# Altium footprint library PcbLib1.PcbLib: 43 footprints (part 2 of 3)
Each footprint in its own frame and in the unit in brackets; x right, y up, seen from the top. Pads: shape width x height; smd on the part's side, far side on the other; paste and mask are expansions set on the pad; w line width, h text height; cw(c..) or ccw(c..) is an arc to the next point about the centre after c.
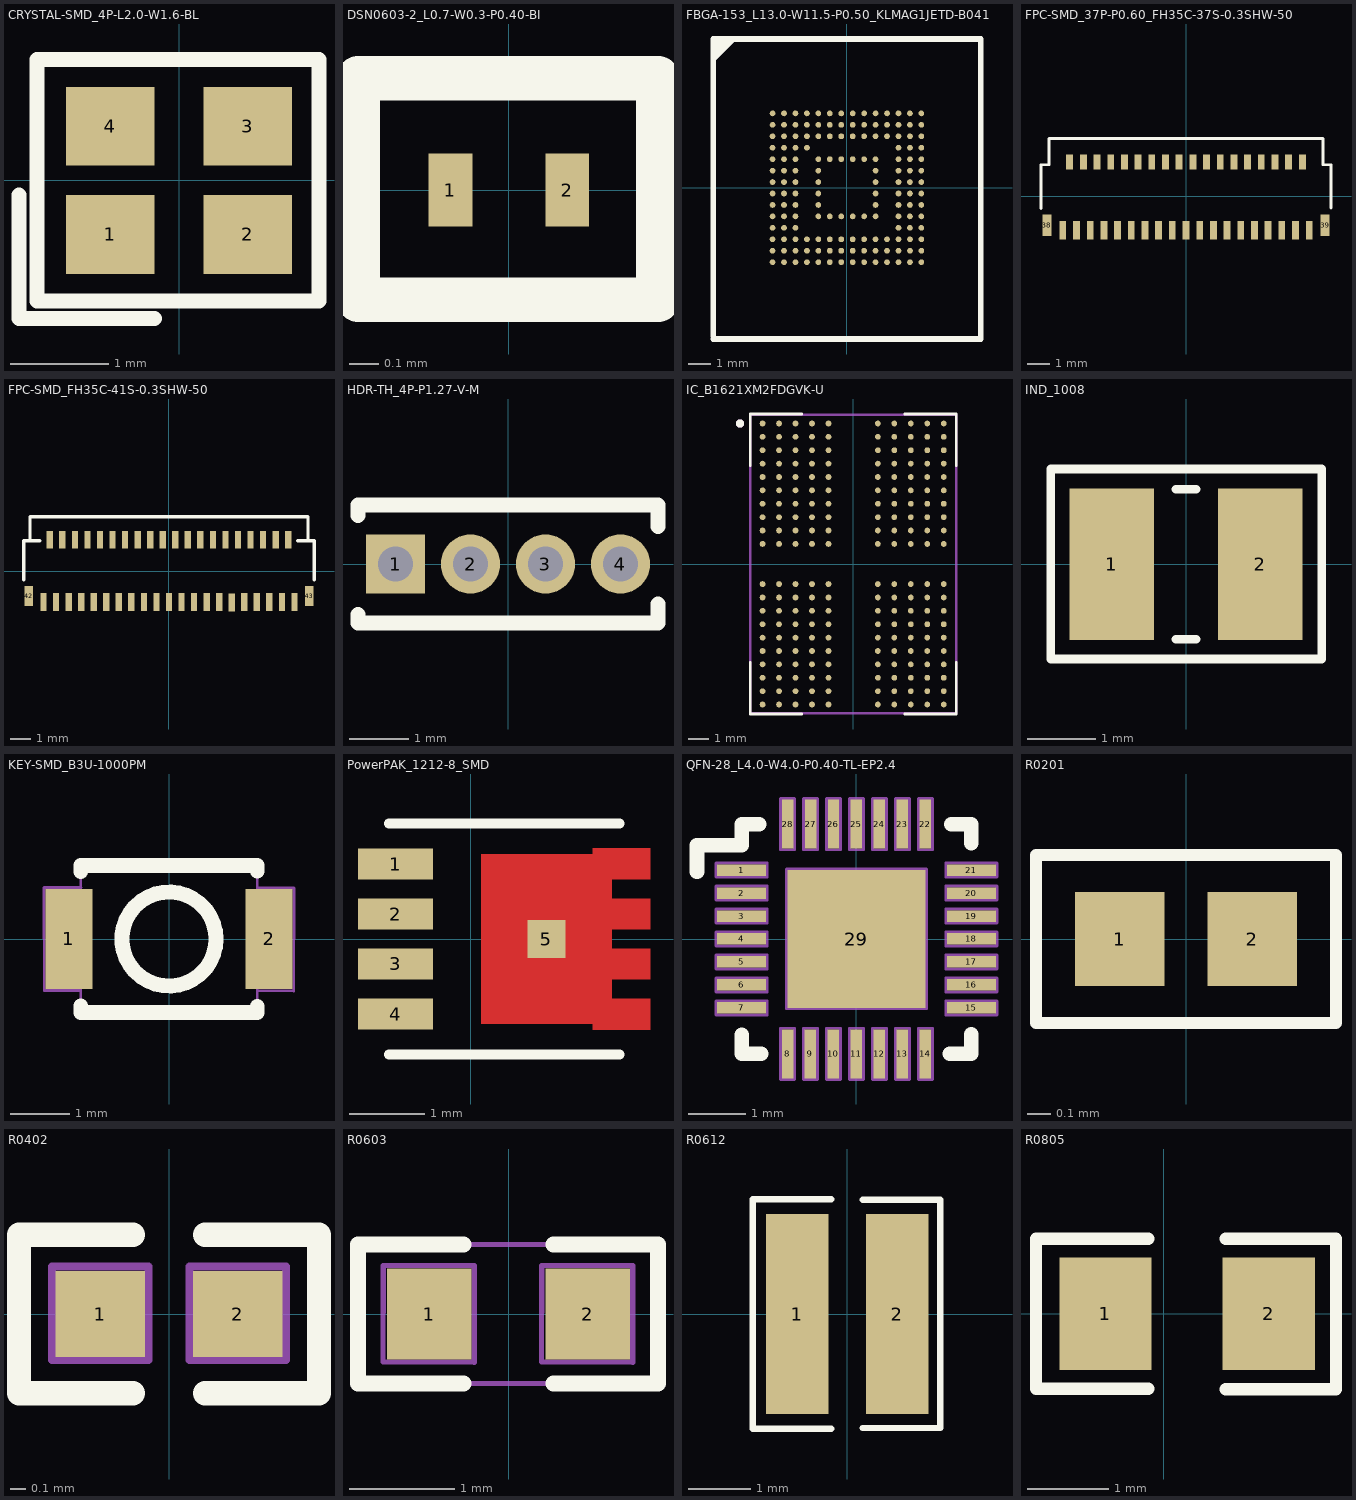
[diagram p1: the footprints below, top view; thin cyan lines are the x and y axes]

## CRYSTAL-SMD_4P-L2.0-W1.6-BL [mm] "SMD2016"
pads (4):
  rect 0.9x0.8 smd paste+0 mask+0.051: 1(-0.7,-0.55) 2(0.7,-0.55) 3(0.7,0.55) 4(-0.7,0.55)
Top Overlay:
  lines w0.152: -1.627,-0.15 -1.627,-1.404 -0.25,-1.404 ; -1.446,-1.227 1.422,-1.227 1.422,1.228 -1.446,1.228 -1.446,-1.227
3D body "SMD_2016.step": height 0.45, standoff 0, extent -1,-0.8 1,0.8

## DSN0603-2_L0.7-W0.3-P0.40-BI [mm] "DSN0603"
pads (2):
  rect 0.15x0.25 smd paste+0 mask+0.051: 1(-0.2,0) 2(0.2,0)
Top Overlay:
  lines w0.152: -0.516,-0.376 0.511,-0.376 0.511,0.384 -0.516,0.384 -0.516,-0.376
3D body "User Library-SOD962.step": height 0.33, standoff 0, extent -0.296,-0.147 0.304,0.153

## FBGA-153_L13.0-W11.5-P0.50_KLMAG1JETD-B041 [mm]
pads (153):
  round 0.25 smd paste-100 mask+0.05: A1(-3.25,3.25) A2(-2.75,3.25) A3(-2.25,3.25) A4(-1.75,3.25) A5(-1.25,3.25) A6(-0.75,3.25) A7(-0.25,3.25) A8(0.25,3.25) A9(0.75,3.25) A10(1.25,3.25) A11(1.75,3.25) A12(2.25,3.25) A13(2.75,3.25) A14(3.25,3.25) B1(-3.25,2.75) B2(-2.75,2.75) B3(-2.25,2.75) B4(-1.75,2.75) B5(-1.25,2.75) B6(-0.75,2.75) B7(-0.25,2.75) B8(0.25,2.75) B9(0.75,2.75) B10(1.25,2.75) B11(1.75,2.75) B12(2.25,2.75) B13(2.75,2.75) B14(3.25,2.75) C1(-3.25,2.25) C2(-2.75,2.25) C3(-2.25,2.25) C4(-1.75,2.25) C5(-1.25,2.25) C6(-0.75,2.25) C7(-0.25,2.25) C8(0.25,2.25) C9(0.75,2.25) C10(1.25,2.25) C11(1.75,2.25) C12(2.25,2.25) C13(2.75,2.25) C14(3.25,2.25) D1(-3.25,1.75) D2(-2.75,1.75) D3(-2.25,1.75) D4(-1.75,1.75) D12(2.25,1.75) D13(2.75,1.75) D14(3.25,1.75) E1(-3.25,1.25) E2(-2.75,1.25) E3(-2.25,1.25) E5(-1.25,1.25) E6(-0.75,1.25) E7(-0.25,1.25) E8(0.25,1.25) E9(0.75,1.25) E10(1.25,1.25) E12(2.25,1.25) E13(2.75,1.25) E14(3.25,1.25) F1(-3.25,0.75) F2(-2.75,0.75) F3(-2.25,0.75) F5(-1.25,0.75) F10(1.25,0.75) F12(2.25,0.75) F13(2.75,0.75) F14(3.25,0.75) G1(-3.25,0.25) G2(-2.75,0.25) G3(-2.25,0.25) G5(-1.25,0.25) G10(1.25,0.25) G12(2.25,0.25) G13(2.75,0.25) G14(3.25,0.25) H1(-3.25,-0.25) H2(-2.75,-0.25) H3(-2.25,-0.25) H5(-1.25,-0.25) H10(1.25,-0.25) H12(2.25,-0.25) H13(2.75,-0.25) H14(3.25,-0.25) J1(-3.25,-0.75) J2(-2.75,-0.75) J3(-2.25,-0.75) J5(-1.25,-0.75) J10(1.25,-0.75) J12(2.25,-0.75) J13(2.75,-0.75) J14(3.25,-0.75) K1(-3.25,-1.25) K2(-2.75,-1.25) K3(-2.25,-1.25) K5(-1.25,-1.25) K6(-0.75,-1.25) K7(-0.25,-1.25) K8(0.25,-1.25) K9(0.75,-1.25) K10(1.25,-1.25) K12(2.25,-1.25) K13(2.75,-1.25) K14(3.25,-1.25) L1(-3.25,-1.75) L2(-2.75,-1.75) L3(-2.25,-1.75) L12(2.25,-1.75) L13(2.75,-1.75) L14(3.25,-1.75) M1(-3.25,-2.25) M2(-2.75,-2.25) M3(-2.25,-2.25) M4(-1.75,-2.25) M5(-1.25,-2.25) M6(-0.75,-2.25) M7(-0.25,-2.25) M8(0.25,-2.25) M9(0.75,-2.25) M10(1.25,-2.25) M11(1.75,-2.25) M12(2.25,-2.25) M13(2.75,-2.25) M14(3.25,-2.25) N1(-3.25,-2.75) N2(-2.75,-2.75) N3(-2.25,-2.75) N4(-1.75,-2.75) N5(-1.25,-2.75) N6(-0.75,-2.75) N7(-0.25,-2.75) N8(0.25,-2.75) N9(0.75,-2.75) N10(1.25,-2.75) N11(1.75,-2.75) N12(2.25,-2.75) N13(2.75,-2.75) N14(3.25,-2.75) P1(-3.25,-3.25) P2(-2.75,-3.25) P3(-2.25,-3.25) P4(-1.75,-3.25) P5(-1.25,-3.25) P6(-0.75,-3.25) P7(-0.25,-3.25) P8(0.25,-3.25) P9(0.75,-3.25) P10(1.25,-3.25) P11(1.75,-3.25) P12(2.25,-3.25) P13(2.75,-3.25) P14(3.25,-3.25)
Top Overlay:
  region: -4.826,6.477 -5.715,6.477 -5.715,5.588
  lines w0.254: -5.841,-6.605 5.843,-6.605 5.843,5.079 ; -5.841,-6.5 -5.841,6.5 5.842,6.5 5.842,5.079
Top Paste:
  drawing of 153 lines, arcs and shapes, not listed
3D body "BGA153C50P14X14_1150X1300X70.step": height 0.7, standoff 0, extent -5.75,-6.5 5.75,6.5

## FPC-SMD_37P-P0.60_FH35C-37S-0.3SHW-50 [mm]
pads (39):
  rect 0.3x0.8 smd paste+0 mask+0.051: 1(5.4,-1.5) 3(4.8,-1.5) 5(4.2,-1.5) 7(3.6,-1.5) 9(3,-1.5) 11(2.4,-1.5) 13(1.8,-1.5) 15(1.2,-1.5) 17(0.6,-1.5) 19(0,-1.5) 21(-0.6,-1.5) 23(-1.2,-1.5) 25(-1.8,-1.5) 27(-2.4,-1.5) 29(-3,-1.5) 31(-3.6,-1.5) 33(-4.2,-1.5) 35(-4.8,-1.5) 37(-5.4,-1.5)
  rect 0.3x0.65 smd paste+0 mask+0.051: 2(5.1,1.5) 4(4.5,1.5) 6(3.9,1.5) 8(3.3,1.5) 10(2.7,1.5) 12(2.1,1.5) 14(1.5,1.5) 16(0.9,1.5) 18(0.3,1.5) 20(-0.3,1.5) 22(-0.9,1.5) 24(-1.5,1.5) 26(-2.1,1.5) 28(-2.7,1.5) 30(-3.3,1.5) 32(-3.9,1.5) 34(-4.5,1.5) 36(-5.1,1.5)
  rect 0.4x0.95 smd paste+0 mask+0.051: 38(-6.1,-1.275) 39(6.1,-1.275)
Top Overlay:
  lines w0.127: -6.349,-0.542 -6.349,1.376 -6.001,1.376 -6.001,2.524 6.001,2.524 6.001,1.376 6.351,1.376 6.351,-0.52
3D body "FH35C-37S-0.3SHW(50).STEP": height 0.94, standoff 0.04, extent -6.332,-1.776 6.368,2.424

## FPC-SMD_FH35C-41S-0.3SHW-50 [mm]
pads (43):
  rect 0.3x0.85 smd paste+0 mask+0.051: 1(6,-1.475) 2(5.7,1.5) 3(5.4,-1.475) 4(5.1,1.5) 5(4.8,-1.475) 6(4.5,1.5) 7(4.2,-1.475) 8(3.9,1.5) 9(3.6,-1.475) 10(3.3,1.5) 11(3,-1.5) 12(2.7,1.5) 13(2.4,-1.475) 14(2.1,1.5) 15(1.8,-1.475) 16(1.5,1.5) 17(1.2,-1.475) 18(0.9,1.5) 19(0.6,-1.475) 20(0.3,1.5) 21(0,-1.475) 22(-0.3,1.5) 23(-0.6,-1.475) 24(-0.9,1.5) 25(-1.2,-1.475) 26(-1.5,1.5) 27(-1.8,-1.475) 28(-2.1,1.5) 29(-2.4,-1.475) 30(-2.7,1.5) 31(-3,-1.475) 32(-3.3,1.5) 33(-3.6,-1.475) 34(-3.9,1.5) 35(-4.2,-1.475) 36(-4.5,1.5) 37(-4.8,-1.475) 38(-5.1,1.5) 39(-5.4,-1.475) 40(-5.7,1.5) 41(-6,-1.475)
  rect 0.4x0.95 smd paste+0 mask+0.051: 42(-6.7,-1.2) 43(6.7,-1.2)
Top Overlay:
  lines w0.152: -6.95,-0.413 -6.95,1.45 -6.65,1.45 ; -6.164,1.45 -6.65,1.45 ; 6.152,1.45 6.65,1.45 ; 6.95,-0.431 6.95,1.45 6.65,1.45 ; -6.65,1.45 -6.65,2.6 6.65,2.6 6.65,1.45
3D body "FH35C-41S-0.3SHW(50).STEP": height 0.94, standoff 0.04, extent -6.938,-1.624 6.962,2.576

## HDR-TH_4P-P1.27-V-M [mm]
pads (4):
  rect 1x1 hole 0.6 paste-2539.97 mask+0.051: 1(-1.905,0)
  round 1 hole 0.6 paste-2539.97 mask+0.051: 2(-0.635,0) 3(0.635,0) 4(1.905,0)
Top Overlay:
  lines w0.254: -2.54,-0.858 -2.54,-1 2.54,-1 2.54,-0.68 ; -2.54,0.82 -2.54,1 2.54,1 2.54,0.637

## IC_B1621XM2FDGVK-U [mm]
height 0.95
pads (200):
  round 0.28 smd: A1(-4.4,6.825) A2(-3.6,6.825) A3(-2.8,6.825) A4(-2,6.825) A5(-1.2,6.825) A8(1.2,6.825) A9(2,6.825) A10(2.8,6.825) A11(3.6,6.825) A12(4.4,6.825) AA1(-4.4,-6.175) AA2(-3.6,-6.175) AA3(-2.8,-6.175) AA4(-2,-6.175) AA5(-1.2,-6.175) AA8(1.2,-6.175) AA9(2,-6.175) AA10(2.8,-6.175) AA11(3.6,-6.175) AA12(4.4,-6.175) AB1(-4.4,-6.825) AB2(-3.6,-6.825) AB3(-2.8,-6.825) AB4(-2,-6.825) AB5(-1.2,-6.825) AB8(1.2,-6.825) AB9(2,-6.825) AB10(2.8,-6.825) AB11(3.6,-6.825) AB12(4.4,-6.825) B1(-4.4,6.175) B2(-3.6,6.175) B3(-2.8,6.175) B4(-2,6.175) B5(-1.2,6.175) B8(1.2,6.175) B9(2,6.175) B10(2.8,6.175) B11(3.6,6.175) B12(4.4,6.175) C1(-4.4,5.525) C2(-3.6,5.525) C3(-2.8,5.525) C4(-2,5.525) C5(-1.2,5.525) C8(1.2,5.525) C9(2,5.525) C10(2.8,5.525) C11(3.6,5.525) C12(4.4,5.525) D1(-4.4,4.875) D2(-3.6,4.875) D3(-2.8,4.875) D4(-2,4.875) D5(-1.2,4.875) D8(1.2,4.875) D9(2,4.875) D10(2.8,4.875) D11(3.6,4.875) D12(4.4,4.875) E1(-4.4,4.225) E2(-3.6,4.225) E3(-2.8,4.225) E4(-2,4.225) E5(-1.2,4.225) E8(1.2,4.225) E9(2,4.225) E10(2.8,4.225) E11(3.6,4.225) E12(4.4,4.225) F1(-4.4,3.575) F2(-3.6,3.575) F3(-2.8,3.575) F4(-2,3.575) F5(-1.2,3.575) F8(1.2,3.575) F9(2,3.575) F10(2.8,3.575) F11(3.6,3.575) F12(4.4,3.575) G1(-4.4,2.925) G2(-3.6,2.925) G3(-2.8,2.925) G4(-2,2.925) G5(-1.2,2.925) G8(1.2,2.925) G9(2,2.925) G10(2.8,2.925) G11(3.6,2.925) G12(4.4,2.925) H1(-4.4,2.275) H2(-3.6,2.275) H3(-2.8,2.275) H4(-2,2.275) H5(-1.2,2.275) H8(1.2,2.275) H9(2,2.275) H10(2.8,2.275) H11(3.6,2.275) H12(4.4,2.275) J1(-4.4,1.625) J2(-3.6,1.625) J3(-2.8,1.625) J4(-2,1.625) J5(-1.2,1.625) J8(1.2,1.625) J9(2,1.625) J10(2.8,1.625) J11(3.6,1.625) J12(4.4,1.625) K1(-4.4,0.975) K2(-3.6,0.975) K3(-2.8,0.975) K4(-2,0.975) K5(-1.2,0.975) K8(1.2,0.975) K9(2,0.975) K10(2.8,0.975) K11(3.6,0.975) K12(4.4,0.975) N1(-4.4,-0.975) N2(-3.6,-0.975) N3(-2.8,-0.975) N4(-2,-0.975) N5(-1.2,-0.975) N8(1.2,-0.975) N9(2,-0.975) N10(2.8,-0.975) N11(3.6,-0.975) N12(4.4,-0.975) P1(-4.4,-1.625) P2(-3.6,-1.625) P3(-2.8,-1.625) P4(-2,-1.625) P5(-1.2,-1.625) P8(1.2,-1.625) P9(2,-1.625) P10(2.8,-1.625) P11(3.6,-1.625) P12(4.4,-1.625) R1(-4.4,-2.275) R2(-3.6,-2.275) R3(-2.8,-2.275) R4(-2,-2.275) R5(-1.2,-2.275) R8(1.2,-2.275) R9(2,-2.275) R10(2.8,-2.275) R11(3.6,-2.275) R12(4.4,-2.275) T1(-4.4,-2.925) T2(-3.6,-2.925) T3(-2.8,-2.925) T4(-2,-2.925) T5(-1.2,-2.925) T8(1.2,-2.925) T9(2,-2.925) T10(2.8,-2.925) T11(3.6,-2.925) T12(4.4,-2.925) U1(-4.4,-3.575) U2(-3.6,-3.575) U3(-2.8,-3.575) U4(-2,-3.575) U5(-1.2,-3.575) U8(1.2,-3.575) U9(2,-3.575) U10(2.8,-3.575) U11(3.6,-3.575) U12(4.4,-3.575) V1(-4.4,-4.225) V2(-3.6,-4.225) V3(-2.8,-4.225) V4(-2,-4.225) V5(-1.2,-4.225) V8(1.2,-4.225) V9(2,-4.225) V10(2.8,-4.225) V11(3.6,-4.225) V12(4.4,-4.225) W1(-4.4,-4.875) W2(-3.6,-4.875) W3(-2.8,-4.875) W4(-2,-4.875) W5(-1.2,-4.875) W8(1.2,-4.875) W9(2,-4.875) W10(2.8,-4.875) W11(3.6,-4.875) W12(4.4,-4.875) Y1(-4.4,-5.525) Y2(-3.6,-5.525) Y3(-2.8,-5.525) Y4(-2,-5.525) Y5(-1.2,-5.525) Y8(1.2,-5.525) Y9(2,-5.525) Y10(2.8,-5.525) Y11(3.6,-5.525) Y12(4.4,-5.525)
Top Overlay:
  circle w0.2: c-5.5,6.825 r0.1
  lines w0.127: -5,-4.77 -5,-7.285 -2.5,-7.285 ; -5,4.77 -5,7.285 -2.5,7.285 ; 2.5,-7.285 5,-7.285 5,-4.77 ; 2.5,7.285 5,7.285 5,4.77
Mechanical 2:
  lines w0.127: -5,-7.25 5,-7.25 5,7.25 -5,7.25 -5,-7.25
Mechanical 13:
  circle w0.2: c-5.5,6.825 r0.1
3D body "step_temp.STEP": height 0.95, standoff 0, extent -5,-7.25 5,7.25

## IND_1008 [mm] "Inductor"
pads (2):
  rect 1.24x2.22 smd: 1(-1.09,0) 2(1.09,0)
Top Overlay:
  lines w0.127: -0.15,-1.1 0.15,-1.1 ; -0.15,1.1 0.15,1.1 ; -1.983,-1.392 -1.983,1.397 1.99,1.397 1.99,-1.392 -1.983,-1.392
3D body "User Library-1008CS.step": height 2.01, standoff -0.02, extent -1.46,-1.395 1.46,1.395

## KEY-SMD_B3U-1000PM [mm]
height 1.6
pads (2):
  rect 0.8x1.7 smd paste+0 mask+0.051: 1(-1.7,0) 2(1.7,0)
Top Overlay:
  circle w0.254: c0,0 r0.8
  lines w0.254: -1.5,-1.138 -1.5,-1.25 ; -1.5,1.151 -1.5,1.25 ; 1.5,-1.146 1.5,-1.25 ; 1.5,1.158 1.5,1.25 ; -1.5,-1.25 1.5,-1.25 ; -1.5,-1.25 1.5,-1.25 ; -1.5,1.25 1.5,1.25 ; -1.5,1.25 1.5,1.25
Mechanical 2:
  circle w0.05: c0,0 r0.762
  lines w0.05: -1.503,-0.877 -2.121,-0.872 -2.124,0.873 -1.492,0.873 ; 1.5,0.87 2.124,0.87 2.121,-0.884 1.507,-0.879 ; -1.5,-1.25 1.5,-1.25 1.5,1.081 1.5,1.25 -1.5,1.25 -1.5,-1.25
3D body "B3U-1000P--3DModel-STEP-56544.STEP": height 1.75, standoff 0, extent -2,-1.25 2,1.25

## PowerPAK_1212-8_SMD [mm] "Mosfet"
pads (5):
  rect 0.99x0.405 smd: 1(-0.996,0.99) 2(-0.996,0.33) 3(-0.996,-0.33) 4(-0.996,-0.99)
  rect 0.5x0.5 smd paste-1 mask+0: 5(0.996,0)
Top Layer:
  region: 2.369,0.787 1.859,0.787 1.859,0.533 2.369,0.533 2.369,0.128 1.859,0.128 1.859,-0.128 2.369,-0.128 2.369,-0.533 1.859,-0.533 1.859,-0.787 2.369,-0.787 2.369,-1.195 1.609,-1.195 1.609,-1.118 0.134,-1.118 0.134,1.118 1.609,1.118 1.609,1.195 2.369,1.195
Top Overlay:
  lines w0.127: -1.086,-1.525 1.964,-1.525 ; -1.086,1.525 1.964,1.525
Top Paste:
  region: 1.542,-0.707 0.45,-0.707 0.45,0.707 1.542,0.707
Top Solder:
  region: 2.469,0.687 1.959,0.687 1.959,0.633 2.469,0.632 2.469,0.028 1.959,0.028 1.959,-0.028 2.469,-0.028 2.469,-0.632 1.959,-0.633 1.959,-0.687 2.469,-0.687 2.469,-1.292 1.509,-1.292 1.509,-1.218 0.034,-1.218 0.034,1.218 1.509,1.218 1.509,1.292 2.469,1.292
Mechanical 13:
  lines w0.05: -1.086,-1.525 1.964,-1.525 ; -1.086,1.525 1.964,1.525
3D body "User Library-PowerPAK 1212-8-1.step": height 1.05, standoff 0.01, extent -1.16,-1.675 2.14,1.625

## QFN-28_L4.0-W4.0-P0.40-TL-EP2.4 [mm]
pads (29):
  rect 0.85x0.2 smd paste+0 mask+0.05: 1(-2,1.2) 2(-2,0.8) 3(-2,0.4) 4(-2,0.001) 5(-2,-0.4) 6(-2,-0.8) 7(-2,-1.2) 15(2,-1.2) 16(2,-0.8) 17(2,-0.4) 18(2,0) 19(2,0.4) 20(2,0.8) 21(2,1.2)
  rect 0.2x0.85 smd paste+0 mask+0.05: 8(-1.2,-2) 9(-0.8,-2) 10(-0.4,-2) 11(0,-2) 12(0.399,-2) 13(0.8,-2) 14(1.2,-2) 22(1.2,2) 23(0.8,2) 24(0.4,2) 25(0,2) 26(-0.4,2) 27(-0.8,2) 28(-1.2,2)
  rect 2.4x2.4 smd paste+0 mask+0.05: 29(0,0)
Top Overlay:
  lines w0.254: -2.776,1.173 -2.776,1.634 -2,1.634 -2,2 -1.692,2 ; -2,-1.671 -2,-2 -1.659,-2 ; 1.628,-2 2,-2 2,-1.656 ; 1.654,2 2,2 2,1.664
Top Paste:
  region: -1.1,2.425 -1.3,2.425 -1.3,1.575 -1.1,1.575
  region: -0.7,2.425 -0.9,2.425 -0.9,1.575 -0.7,1.575
  region: -0.3,2.425 -0.5,2.425 -0.5,1.575 -0.3,1.575
  region: 0.099,2.425 -0.101,2.425 -0.101,1.575 0.099,1.575
  region: 0.5,2.425 0.3,2.425 0.3,1.575 0.5,1.575
  region: 0.9,2.425 0.7,2.425 0.7,1.575 0.9,1.575
  region: 1.3,2.425 1.1,2.425 1.1,1.575 1.3,1.575
  region: -1.1,-1.575 -1.3,-1.575 -1.3,-2.425 -1.1,-2.425
  region: -0.7,-1.575 -0.9,-1.575 -0.9,-2.425 -0.7,-2.425
  region: -0.3,-1.575 -0.5,-1.575 -0.5,-2.425 -0.3,-2.425
  region: 0.099,-1.575 -0.101,-1.575 -0.101,-2.425 0.099,-2.425
  region: 0.5,-1.575 0.3,-1.575 0.3,-2.425 0.5,-2.425
  region: 0.9,-1.575 0.7,-1.575 0.7,-2.425 0.9,-2.425
  region: 1.3,-1.575 1.1,-1.575 1.1,-2.425 1.3,-2.425
  region: 2.425,1.1 2.425,1.3 1.575,1.3 1.575,1.1
  region: 2.425,0.7 2.425,0.9 1.575,0.9 1.575,0.7
  region: 2.425,0.3 2.425,0.5 1.575,0.5 1.575,0.3
  region: 2.425,-0.099 2.425,0.101 1.575,0.101 1.575,-0.099
  region: 2.425,-0.5 2.425,-0.3 1.575,-0.3 1.575,-0.5
  region: 2.425,-0.9 2.425,-0.7 1.575,-0.7 1.575,-0.9
  region: 2.425,-1.3 2.425,-1.1 1.575,-1.1 1.575,-1.3
  region: -1.575,-1.3 -1.575,-1.1 -2.425,-1.1 -2.425,-1.3
  region: -1.575,-0.9 -1.575,-0.7 -2.425,-0.7 -2.425,-0.9
  region: -1.575,-0.5 -1.575,-0.3 -2.425,-0.3 -2.425,-0.5
  region: -1.575,-0.099 -1.575,0.101 -2.425,0.101 -2.425,-0.099
  region: -1.575,0.3 -1.575,0.5 -2.425,0.5 -2.425,0.3
  region: -1.575,0.7 -1.575,0.9 -2.425,0.9 -2.425,0.7
  region: -1.575,1.1 -1.575,1.3 -2.425,1.3 -2.425,1.1
  region: -0.96,0.96 0.96,0.96 0.96,-0.96 -0.96,-0.96
Mechanical 2:
  lines w0.05: -2,-1.671 -2,-2 -1.659,-2 ; -2,1.634 -2,2 -1.692,2 ; 1.628,-2 2,-2 2,-1.656 ; 1.654,2 2,2 2,1.664 ; -2.446,-1.321 -2.446,-1.078 -1.553,-1.078 -1.553,-1.321 -2.446,-1.321 ; -2.446,-0.921 -2.446,-0.678 -1.553,-0.678 -1.553,-0.921 -2.446,-0.921 ; -2.446,-0.521 -2.446,-0.278 -1.553,-0.278 -1.553,-0.521 -2.446,-0.521 ; -2.446,-0.121 -2.446,0.122 -1.553,0.122 -1.553,-0.121 -2.446,-0.121 ; -2.446,0.279 -2.446,0.522 -1.553,0.522 -1.553,0.279 -2.446,0.279 ; -2.446,0.679 -2.446,0.922 -1.553,0.922 -1.553,0.679 -2.446,0.679 ; -2.446,1.079 -2.446,1.322 -1.553,1.322 -1.553,1.079 -2.446,1.079 ; -1.322,1.554 -1.322,2.447 -1.079,2.447 -1.079,1.554 -1.322,1.554 ; -1.321,-2.447 -1.321,-1.554 -1.078,-1.554 -1.078,-2.447 -1.321,-2.447 ; -1.218,-1.214 -1.218,1.218 1.217,1.218 1.217,-1.214 -1.218,-1.214 ; -0.922,1.554 -0.922,2.447 -0.679,2.447 -0.679,1.554 -0.922,1.554 ; -0.921,-2.447 -0.921,-1.554 -0.678,-1.554 -0.678,-2.447 -0.921,-2.447 ; -0.522,1.554 -0.522,2.447 -0.279,2.447 -0.279,1.554 -0.522,1.554 ; -0.521,-2.447 -0.521,-1.554 -0.278,-1.554 -0.278,-2.447 -0.521,-2.447 ; -0.122,1.554 -0.122,2.447 0.121,2.447 0.121,1.554 -0.122,1.554 ; -0.121,-2.447 -0.121,-1.554 0.122,-1.554 0.122,-2.447 -0.121,-2.447 ; 0.278,1.554 0.278,2.447 0.521,2.447 0.521,1.554 0.278,1.554 ; 0.279,-2.447 0.279,-1.554 0.522,-1.554 0.522,-2.447 0.279,-2.447 ; 0.679,-2.447 0.679,-1.554 0.922,-1.554 0.922,-2.447 0.679,-2.447 ; 0.678,1.554 0.678,2.447 0.921,2.447 0.921,1.554 0.678,1.554 ; 1.079,-2.447 1.079,-1.554 1.322,-1.554 1.322,-2.447 1.079,-2.447 ; 1.078,1.554 1.078,2.447 1.321,2.447 1.321,1.554 1.078,1.554 ; 1.553,-1.322 2.446,-1.322 2.446,-1.079 1.553,-1.079 1.553,-1.322 ; 1.553,-0.922 2.446,-0.922 2.446,-0.679 1.553,-0.679 1.553,-0.922 ; 1.553,-0.522 2.446,-0.522 2.446,-0.279 1.553,-0.279 1.553,-0.522 ; 1.553,-0.122 2.446,-0.122 2.446,0.121 1.553,0.121 1.553,-0.122 ; 1.553,0.278 2.446,0.278 2.446,0.521 1.553,0.521 1.553,0.278 ; 1.553,0.678 2.446,0.678 2.446,0.921 1.553,0.921 1.553,0.678 ; 1.553,1.078 2.446,1.078 2.446,1.321 1.553,1.321 1.553,1.078
3D body "EFM8UB10F16G-C-QFN28.STEP": height 0.87, standoff 0.07, extent -2.503,-2.508 2.497,2.492

## R0201 [mm]
pads (2):
  rect 0.38x0.4 smd mask+0.05: 1(-0.28,0) 2(0.28,0)
Top Overlay:
  lines w0.05: -0.635,-0.356 -0.635,0.356 0.635,0.356 0.635,-0.356 -0.635,-0.356
3D body "User Library-RES_0603-0201.step": height 0.35, standoff 0.01, extent -0.34,-0.165 0.34,0.165

## R0402 [mm] "0402"
pads (2):
  rect 0.566x0.54 smd paste-100 mask+0.051: 1(-0.433,0) 2(0.433,0)
Top Overlay:
  lines w0.152: -0.226,-0.499 -0.944,-0.499 -0.944,0.499 -0.226,0.499 ; 0.226,-0.499 0.944,-0.499 0.944,0.499 0.226,0.499
Top Paste:
  region: -0.135,-0.23 -0.135,0.23 -0.175,0.27 -0.676,0.27 -0.716,0.23 -0.716,-0.23 -0.676,-0.27 -0.175,-0.27
  region: 0.135,-0.23 0.135,0.23 0.175,0.27 0.676,0.27 0.716,0.23 0.716,-0.23 0.676,-0.27 0.175,-0.27
Mechanical 2:
  lines w0.05: -0.226,-0.499 -0.944,-0.499 -0.944,0.499 -0.226,0.499 ; 0.226,-0.499 0.944,-0.499 0.944,0.499 0.226,0.499 ; -0.738,-0.29 -0.128,-0.29 -0.128,0.298 -0.738,0.298 -0.738,-0.29 ; 0.128,-0.29 0.738,-0.29 0.738,0.298 0.128,0.298 0.128,-0.29
3D body "YAG_R0402_YAG.step": height 0.41, standoff 0, extent -0.54,-0.275 0.526,0.283

## R0603 [mm] "Resister pakage 0603"
height 0.55
pads (2):
  rect 0.806x0.864 smd paste-100 mask+0.051: 1(-0.753,0) 2(0.753,0)
Top Overlay:
  lines w0.152: -0.426,-0.661 -1.43,-0.661 -1.43,0.661 -0.426,0.661 ; 0.426,-0.661 1.42,-0.661 1.42,0.661 0.426,0.661
Top Paste:
  region: 1.195,0.45 0.395,0.45 0.345,0.4 0.345,0.172 0.715,0.172 0.715,-0.158 0.345,-0.158 0.345,-0.4 0.395,-0.45 1.195,-0.45 1.245,-0.4 1.245,0.4
  region: -1.195,-0.45 -0.395,-0.45 -0.345,-0.4 -0.345,-0.172 -0.715,-0.172 -0.715,0.158 -0.345,0.158 -0.345,0.4 -0.395,0.45 -1.195,0.45 -1.245,0.4 -1.245,-0.4
Mechanical 2:
  lines w0.05: -1.385,-0.661 -1.385,0.661 -0.426,0.661 0.426,0.661 1.385,0.661 1.385,-0.661 0.426,-0.661 -0.426,-0.661 -1.385,-0.661 ; -1.193,-0.456 -0.326,-0.46 -0.326,0.461 -1.19,0.461 -1.193,-0.456 ; 0.313,-0.456 1.181,-0.46 1.181,0.461 0.317,0.461 0.313,-0.456
3D body "CircuitWorks-RESISTOR 0603.step": height 0.48, standoff -0.03, extent -0.798,-0.43 0.802,0.43

## R0612 [mm]
pads (2):
  rect 1x3.2 smd paste+0 mask+0.051: 1(-0.8,0) 2(0.8,0)
Top Overlay:
  lines w0.102: -0.25,-1.836 -1.508,-1.836 -1.508,1.839 -0.25,1.839 ; 0.25,-1.824 1.49,-1.824 1.49,1.831 0.25,1.831
3D body "THJP0612A.stp": height 0.76, standoff 0, extent -0.857,-1.589 0.744,1.612

## R0805 [mm] "0805"
pads (2):
  rect 1.133x1.377 smd paste-100 mask+0.051: 1(-0.712,0) 2(1.288,0)
Top Overlay:
  lines w0.152: -0.188,-0.917 -1.564,-0.917 -1.564,0.917 -0.188,0.917 ; 0.764,-0.923 2.113,-0.923 2.113,0.917 0.764,0.917
Top Paste:
  region: -1.412,-0.64 -1.412,0.64 -1.362,0.69 -0.212,0.69 -0.162,0.64 -0.157,0.23 -0.607,0.23 -0.607,-0.22 -0.167,-0.22 -0.162,-0.64 -0.212,-0.69 -1.362,-0.69
  region: 0.738,-0.64 0.738,-0.22 1.183,-0.22 1.183,0.23 0.743,0.23 0.738,0.64 0.788,0.69 1.938,0.69 1.988,0.64 1.988,-0.64 1.938,-0.69 0.788,-0.69
3D body "User Library-R0805-2.step": height 0.55, standoff 0, extent -0.9,-0.62 1.5,0.63